# Altium schematic symbol library Schlib2.SchLib: 1 symbol
Pins are listed as number, name and electrical type; pins without a type are passive.

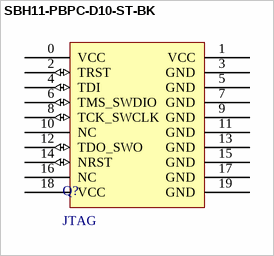
[diagram p0: symbol SBH11-PBPC-D10-ST-BK]

## SBH11-PBPC-D10-ST-BK
designator Q?, comment JTAG
JTAG connector for connection wiht ST-LINK/V2 connector(CN3)
footprint SBH11-PBPC-D10-ST-BK; pin to pad 1>0
pins: 0 VCC (power), 1 VCC (power), 2 TRST (io), 3 GND (power), 4 TDI (io), 5 GND (power), 6 TMS_SWDIO (io), 7 GND (power), 8 TCK_SWCLK (io), 9 GND (power), 10 NC (hiz), 11 GND (power), 12 TDO_SWO (io), 13 GND (power), 14 NRST (io), 15 GND (power), 16 NC (hiz), 17 GND (power), 18 VCC (power), 19 GND (power)